# Altium schematic symbol library L7805CD2T.Schlib: 1 symbol
Pins are listed as number, name and electrical type; pins without a type are passive.

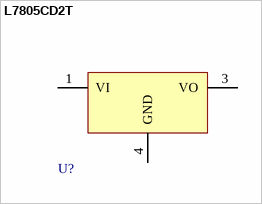
[diagram p0: symbol L7805CD2T]

## L7805CD2T
designator U?
1.5A Linear Regulator
pins: 1 VI (power), 3 VO (power), 4 GND (power)